# EAGLE library part DCR02 (library sc_usercreated)
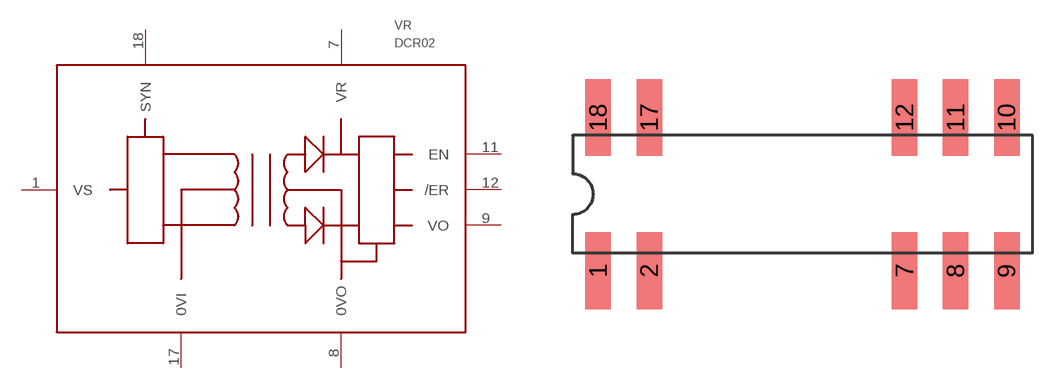
[diagram p23: symbol with the pads of SMD18; footprint SMD18]

Designator prefix VR

## DCR02  [SMD18]
1  VS
7  VR
8  0VO
9  VO
11  EN
12  /ER
17  0VI
18  SYN

## Footprint SMD18 (pad centres in mm)
smd 1.27 x 3.81: 1 -10.16,-3.81; 2 -7.62,-3.81; 7 5.08,-3.81; 8 7.62,-3.81; 9 10.16,-3.81; 10 10.16,3.81; 11 7.62,3.81; 12 5.08,3.81; 17 -7.62,3.81; 18 -10.16,3.81